# Altium footprint library IC-SMD.PCBLIB: 298 footprints (part 14 of 19)
Each footprint in its own frame and in the unit in brackets; x right, y up, seen from the top. Pads: shape width x height; smd on the part's side, far side on the other; paste and mask are expansions set on the pad; w line width, h text height; cw(c..) or ccw(c..) is an arc to the next point about the centre after c.
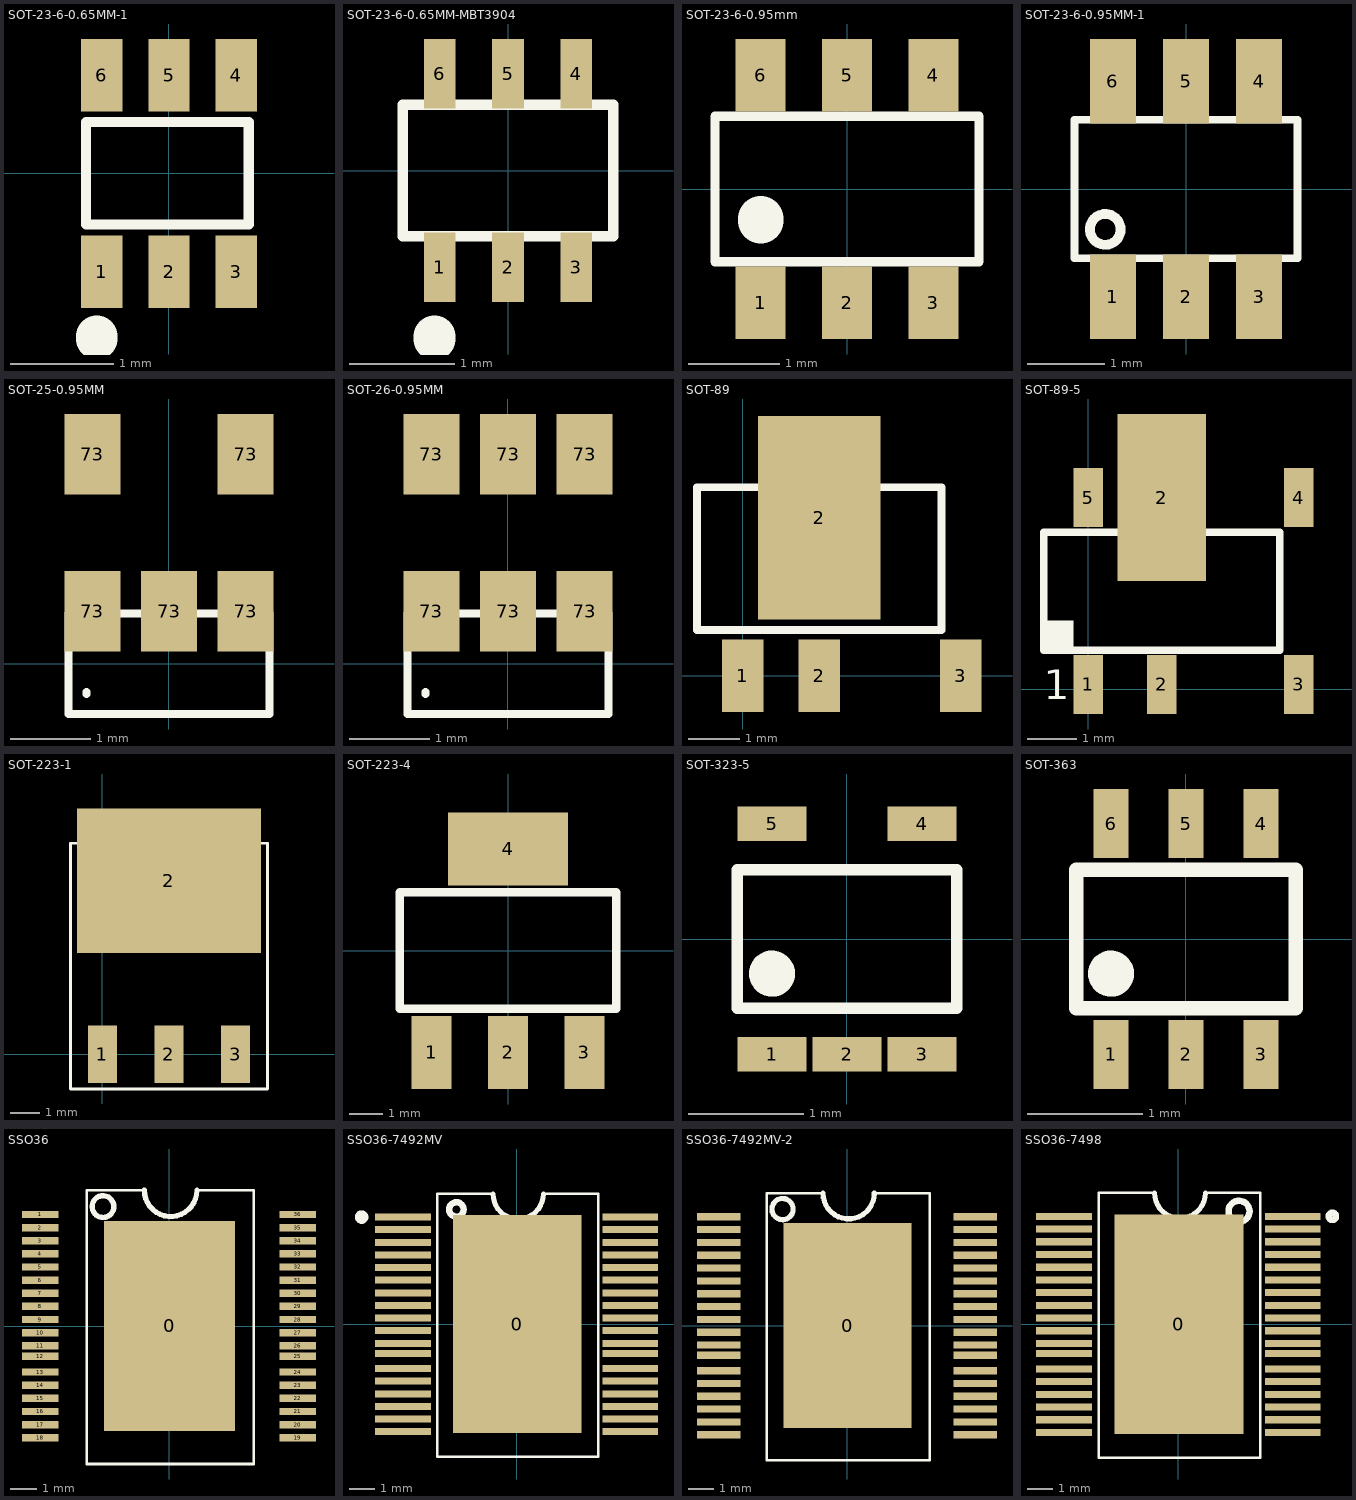
[diagram p13: the footprints below, top view; thin cyan lines are the x and y axes]

## SOT-23-6-0.65MM-1 [mm] "SOT-23-6-0.65MM-1"
pads (6):
  rect 0.4x0.7 smd: 1(-0.65,-0.95) 2(0,-0.95) 3(0.65,-0.95) 4(0.65,0.95) 5(0,0.95) 6(-0.65,0.95)
TopOverlay:
  lines w0.1: -0.802,-0.493 -0.802,0.498 0.772,0.498 0.772,-0.493 -0.802,-0.493
  lines w0.4: -0.7,-1.6 -0.7,-1.575

## SOT-23-6-0.65MM-MBT3904 [mm] "SOT-23-6-0.65MM-MBT3904"
pads (6):
  rect 0.3x0.66 smd: 1(-0.65,-0.92) 2(0,-0.92) 3(0.65,-0.92) 4(0.65,0.92) 5(0,0.92) 6(-0.65,0.92)
TopOverlay:
  lines w0.1: -1,-0.625 -1,0.625 1,0.625 1,-0.625 -1,-0.625
  lines w0.4: -0.7,-1.6 -0.7,-1.575

## SOT-23-6-0.95mm [mm] "SOT-23-6-0.95mm"
pads (6):
  rect 0.55x0.8 smd: 1(-0.95,-1.25) 2(0,-1.25) 3(0.95,-1.25) 4(0.95,1.25) 5(0,1.25) 6(-0.95,1.25)
TopOverlay:
  lines w0.1: -1.45,-0.8 1.45,-0.8 1.45,0.8 -1.45,0.8 -1.45,-0.8
  lines w0.5: -0.95,-0.35 -0.95,-0.325

## SOT-23-6-0.95MM-1 [mm]
pads (6):
  rect 0.6x1.1 smd: 1(-0.95,-1.4) 2(0,-1.4) 3(0.95,-1.4) 4(0.95,1.4) 5(0,1.4) 6(-0.95,1.4)
TopOverlay:
  circle w0.127: c-1.05,-0.525 r0.2
  lines w0.1: -1.45,-0.9 -1.45,0.9 1.45,0.9 1.45,-0.9 -1.45,-0.9

## SOT-25-0.95MM [mm]
pads (5):
  rect 0.7x1 smd: 73(-0.95,0.65) 73(-0.95,2.6) 73(0,0.65) 73(0.95,0.65) 73(0.95,2.6)
TopOverlay:
  lines w0.1: -1.025,-0.375 -1.025,-0.35 ; -1.25,-0.625 -1.25,0.625 1.249,0.625 1.249,-0.625 -1.25,-0.625

## SOT-26-0.95MM [mm]
pads (6):
  rect 0.7x1 smd: 73(-0.95,0.65) 73(-0.95,2.6) 73(0,0.65) 73(0,2.6) 73(0.95,0.65) 73(0.95,2.6)
TopOverlay:
  lines w0.1: -1.025,-0.375 -1.025,-0.35 ; -1.25,-0.625 1.249,-0.625 1.249,0.625 -1.25,0.625 -1.25,-0.625

## SOT-89 [mm]
pads (4):
  rect 0.813x1.422 smd: 1(0,0) 2(1.5,0) 3(4.28,0)
  rect 2.4x4 smd: 2(1.5,3.1)
TopOverlay:
  lines w0.152: -0.9,0.9 3.9,0.9 3.9,3.7 -0.9,3.7 -0.9,0.9

## SOT-89-5 [mm]
pads (6):
  rect 0.6x1.2 smd: 1(0,0.1) 2(1.5,0.1) 3(4.28,0.1) 4(4.28,3.9) 5(0,3.9)
  rect 1.8x3.4 smd: 2(1.5,3.9)
TopOverlay:
  rectangle: -0.9,0.8 -0.3,1.4
  lines w0.152: -0.9,0.8 3.9,0.8 3.9,3.2 -0.9,3.2 -0.9,0.8
  text "1" at -0.9,-0.2 h0.6

## SOT-223-1 [mm]
pads (4):
  rect 1x2 smd: 1(0,0) 2(2.3,0) 3(4.6,0)
  rect 6.35x5 smd: 2(2.3,6)
TopOverlay:
  lines w0.1: -1.1,-1.2 5.7,-1.2 5.7,7.3 -1.1,7.3 -1.1,-1.2

## SOT-223-4 [mm] "SOT-223-4"
pads (4):
  rect 1.2x2.2 smd: 1(-2.3,-3.061) 2(0,-3.061) 3(2.3,-3.061)
  rect 3.6x2.2 smd: 4(0,3.061)
TopOverlay:
  lines w0.254: -3.25,-1.75 3.25,-1.75 3.25,1.75 -3.25,1.75 -3.25,-1.7

## SOT-323-5 [mm]
pads (5):
  rect 0.6x0.3 smd: 1(-0.65,-1) 2(0,-1) 3(0.65,-1) 4(0.65,1) 5(-0.65,1)
TopOverlay:
  circle w0.2: c-0.65,-0.3 r0.1
  lines w0.1: -0.95,-0.6 -0.95,0.6 0.95,0.6 0.95,-0.6 -0.95,-0.6

## SOT-363 [mm]
pads (6):
  rect 0.3x0.6 smd: 1(-0.65,-1) 2(0,-1) 3(0.65,-1) 4(0.65,1) 5(0,1) 6(-0.65,1)
TopOverlay:
  circle w0.2: c-0.65,-0.3 r0.1
  lines w0.127: -0.95,-0.6 -0.95,0.6 0.95,0.6 0.95,-0.6 -0.95,-0.6

## SSO36 [mm]
pads (37):
  rect 5x8 smd: 0(0.022,0.005)
  rect 1.4x0.28 smd: 1(-4.9,4.25) 2(-4.9,3.75) 3(-4.9,3.25) 4(-4.9,2.75) 5(-4.9,2.25) 6(-4.9,1.75) 7(-4.9,1.25) 8(-4.9,0.75) 9(-4.9,0.25) 10(-4.9,-0.25) 11(-4.9,-0.75) 12(-4.9,-1.15) 13(-4.9,-1.75) 14(-4.9,-2.25) 15(-4.9,-2.75) 16(-4.9,-3.25) 17(-4.9,-3.75) 18(-4.9,-4.25) 19(4.9,-4.25) 20(4.9,-3.75) 21(4.9,-3.25) 22(4.9,-2.75) 23(4.9,-2.25) 24(4.9,-1.75) 25(4.9,-1.15) 26(4.9,-0.75) 27(4.9,-0.25) 28(4.9,0.25) 29(4.9,0.75) 30(4.9,1.25) 31(4.9,1.75) 32(4.9,2.25) 33(4.9,2.75) 34(4.9,3.25) 35(4.9,3.75) 36(4.9,4.25)
TopOverlay:
  circle w0.2: c-2.513,4.55 r0.413
  lines w0.1: -0.937,5.171 -3.135,5.171 -3.135,-5.25 3.228,-5.25 3.228,5.171 1.063,5.171
  lines w0.2: -0.937,5.171 ccw(c0.063,5.171) 1.063,5.171

## SSO36-7492MV [mm]
pads (37):
  rect 5.08x8.636 smd: 0(0.022,0.005)
  rect 2.2x0.28 smd: 1(-4.5,4.25) 2(-4.5,3.75) 3(-4.5,3.25) 4(-4.5,2.75) 5(-4.5,2.25) 6(-4.5,1.75) 7(-4.5,1.25) 8(-4.5,0.75) 9(-4.5,0.25) 10(-4.5,-0.25) 11(-4.5,-0.75) 12(-4.5,-1.15) 13(-4.5,-1.75) 14(-4.5,-2.25) 15(-4.5,-2.75) 16(-4.5,-3.25) 17(-4.5,-3.75) 18(-4.5,-4.25) 19(4.5,-4.25) 20(4.5,-3.75) 21(4.5,-3.25) 22(4.5,-2.75) 23(4.5,-2.25) 24(4.5,-1.75) 25(4.5,-1.15) 26(4.5,-0.75) 27(4.5,-0.25) 28(4.5,0.25) 29(4.5,0.75) 30(4.5,1.25) 31(4.5,1.75) 32(4.5,2.25) 33(4.5,2.75) 34(4.5,3.25) 35(4.5,3.75) 36(4.5,4.25)
TopOverlay:
  circle w0.254: c-2.387,4.55 r0.287
  circle w0.254: c-6.141,4.25 r0.141
  lines w0.1: -0.937,5.171 -3.135,5.171 -3.135,-5.25 3.228,-5.25 3.228,5.171 1.063,5.171
  lines w0.2: -0.937,5.171 ccw(c0.063,5.171) 1.063,5.171

## SSO36-7492MV-2 [mm]
pads (37):
  rect 5x8 smd: 0(0.022,0.005)
  rect 1.7x0.28 smd: 1(-5,4.25) 2(-5,3.75) 3(-5,3.25) 4(-5,2.75) 5(-5,2.25) 6(-5,1.75) 7(-5,1.25) 8(-5,0.75) 9(-5,0.25) 10(-5,-0.25) 11(-5,-0.75) 12(-5,-1.15) 13(-5,-1.75) 14(-5,-2.25) 15(-5,-2.75) 16(-5,-3.25) 17(-5,-3.75) 18(-5,-4.25) 19(5,-4.25) 20(5,-3.75) 21(5,-3.25) 22(5,-2.75) 23(5,-2.25) 24(5,-1.75) 25(5,-1.15) 26(5,-0.75) 27(5,-0.25) 28(5,0.25) 29(5,0.75) 30(5,1.25) 31(5,1.75) 32(5,2.25) 33(5,2.75) 34(5,3.25) 35(5,3.75) 36(5,4.25)
TopOverlay:
  circle w0.2: c-2.513,4.55 r0.413
  lines w0.1: -0.937,5.171 -3.135,5.171 -3.135,-5.25 3.228,-5.25 3.228,5.171 1.063,5.171
  lines w0.2: -0.937,5.171 ccw(c0.063,5.171) 1.063,5.171

## SSO36-7498 [mm]
pads (37):
  rect 5.08x8.636 smd: 0(0.022,0.005)
  rect 2.2x0.28 smd: 1(4.5,4.25) 2(4.5,3.75) 3(4.5,3.25) 4(4.5,2.75) 5(4.5,2.25) 6(4.5,1.75) 7(4.5,1.25) 8(4.5,0.75) 9(4.5,0.25) 10(4.5,-0.25) 11(4.5,-0.75) 12(4.5,-1.15) 13(4.5,-1.75) 14(4.5,-2.25) 15(4.5,-2.75) 16(4.5,-3.25) 17(4.5,-3.75) 18(4.5,-4.25) 19(-4.5,-4.25) 20(-4.5,-3.75) 21(-4.5,-3.25) 22(-4.5,-2.75) 23(-4.5,-2.25) 24(-4.5,-1.75) 25(-4.5,-1.15) 26(-4.5,-0.75) 27(-4.5,-0.25) 28(-4.5,0.25) 29(-4.5,0.75) 30(-4.5,1.25) 31(-4.5,1.75) 32(-4.5,2.25) 33(-4.5,2.75) 34(-4.5,3.25) 35(-4.5,3.75) 36(-4.5,4.25)
TopOverlay:
  circle w0.254: c6.059,4.25 r0.141
  circle w0.254: c2.387,4.45 r0.413
  lines w0.1: -0.937,5.171 -3.135,5.171 -3.135,-5.25 3.228,-5.25 3.228,5.171 1.063,5.171
  lines w0.2: -0.937,5.171 ccw(c0.063,5.171) 1.063,5.171